# EAGLE library part ISOW7821DWER (library ISOW7821DWER)
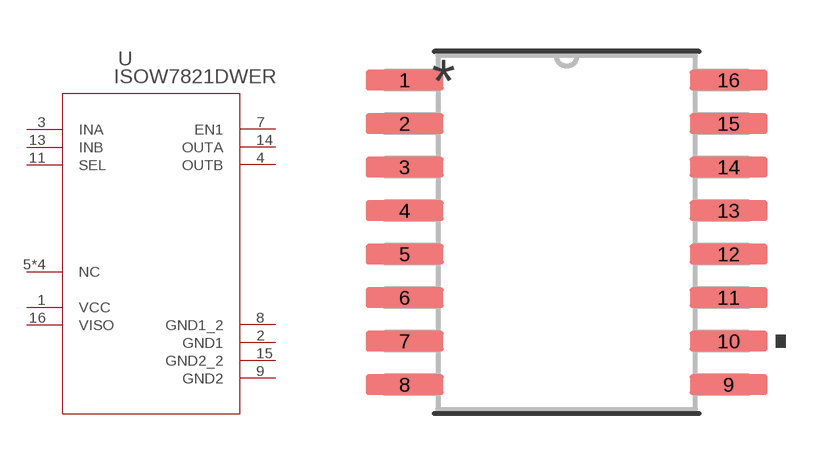
[diagram p0: symbol with the pads of DWE16-M; footprint DWE16-M]

Designator prefix -

## ISOW7821DWER  [DWE16-M]
1  VCC  pas
2  GND1  pas
3  INA  pas
4  OUTB  pas
5  NC  pas
6  NC  pas
7  EN1  pas
8  GND1_2  pas
9  GND2  pas
10  NC  pas
11  SEL  pas
12  NC  pas
13  INB  pas
14  OUTA  pas
15  GND2_2  pas
16  VISO  pas

## Footprint DWE16-M (pad centres in mm)
smd 2.286 x 0.61: 1 -4.731,4.445; 2 -4.731,3.175; 3 -4.731,1.905; 4 -4.731,0.635; 5 -4.731,-0.635; 6 -4.731,-1.905; 7 -4.731,-3.175; 8 -4.731,-4.445; 9 4.731,-4.445; 10 4.731,-3.175; 11 4.731,-1.905; 12 4.731,-0.635; 13 4.731,0.635; 14 4.731,1.905; 15 4.731,3.175; 16 4.731,4.445